# Altium footprint library ME6206A30M3G.PcbLib: 3 footprints
Each footprint in its own frame and in the unit in brackets; x right, y up, seen from the top. Pads: shape width x height; smd on the part's side, far side on the other; paste and mask are expansions set on the pad; w line width, h text height; cw(c..) or ccw(c..) is an arc to the next point about the centre after c.
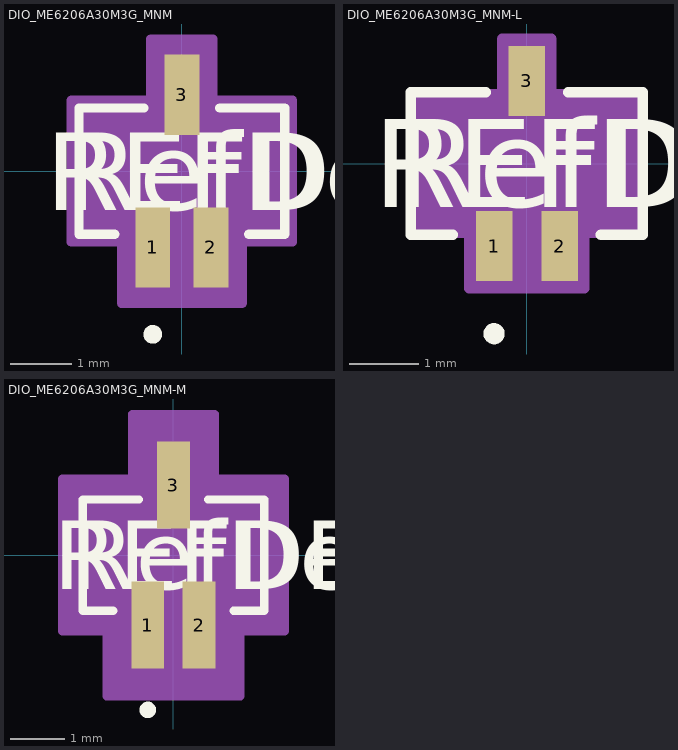
[diagram p0: the footprints below, top view; thin cyan lines are the x and y axes]

## DIO_ME6206A30M3G_MNM [mil]
pads (3):
  rect 22.36x51.56 smd paste+0 mask+0: 1(-18.7,-49) 2(18.7,-49) 3(0,49)
Top Overlay:
  circle w6: c-18.7,-104.78 r3
  lines w6: -42.98,-40.5 -66,-40.5 -66,40.5 -24.28,40.5 ; 24.28,40.5 66,40.5 66,-40.5 42.98,-40.5
  text "REFDES" at -87.5,-25 h50
  text "RefDes" at -75,-25 h50
Mechanical 13:
  circle w0: c-18.7,-25.5 r3
  lines w1: -61,-35.5 61,-35.5 61,35.5 -61,35.5 -61,-35.5 ; -28.7,-61 -28.7,-35.5 -8.7,-35.5 -8.7,-61 -28.7,-61 ; -10,35.5 10,35.5 10,61 -10,61 -10,35.5 ; 8.7,-61 8.7,-35.5 28.7,-35.5 28.7,-61 8.7,-61
  text "RefDes2" at -87.5,-25 h50
Mechanical 15:
  region: -71,-45.5 -71,45.5 -20,45.5 -20,84.78 20,84.78 20,45.5 71,45.5 71,-45.5 38.7,-45.5 38.7,-84.78 -38.7,-84.78 -38.7,-45.5
  lines w6: -71,-45.5 -71,45.5 -20,45.5 -20,84.78 20,84.78 20,45.5 71,45.5 71,-45.5 38.7,-45.5 38.7,-84.78 -38.7,-84.78 -38.7,-45.5 -71,-45.5
3D body "DIO_ME6206A30M3G_MNM.step": height 59.09, standoff 0, extent -60.98,-60.98 60.98,60.98

## DIO_ME6206A30M3G_MNM-L [mm]
pads (3):
  rect 0.528x1.01 smd paste+0 mask+0: 1(-0.475,-1.195) 2(0.475,-1.195) 3(0,1.195)
Top Overlay:
  circle w0.152: c-0.475,-2.461 r0.076
  lines w0.152: -1.072,-1.029 -1.676,-1.029 -1.676,1.029 -0.597,1.029 ; 0.597,1.029 1.676,1.029 1.676,-1.029 1.072,-1.029
  text "REFDES" at -2.222,-0.635 h1.27
  text "RefDes" at -1.905,-0.635 h1.27
Mechanical 13:
  circle w0: c-0.475,-0.648 r0.076
  lines w0.025: -1.549,-0.902 1.549,-0.902 1.549,0.902 -1.549,0.902 -1.549,-0.902 ; -0.729,-1.549 -0.729,-0.902 -0.221,-0.902 -0.221,-1.549 -0.729,-1.549 ; -0.254,0.902 0.254,0.902 0.254,1.549 -0.254,1.549 -0.254,0.902 ; 0.221,-1.549 0.221,-0.902 0.729,-0.902 0.729,-1.549 0.221,-1.549
  text "RefDes2" at -2.222,-0.635 h1.27
Mechanical 15:
  region: -1.651,-1.003 -1.651,1.003 -0.356,1.003 -0.356,1.801 0.356,1.801 0.356,1.003 1.651,1.003 1.651,-1.003 0.831,-1.003 0.831,-1.801 -0.831,-1.801 -0.831,-1.003
  lines w0.152: -1.651,-1.003 -1.651,1.003 -0.356,1.003 -0.356,1.801 0.356,1.801 0.356,1.003 1.651,1.003 1.651,-1.003 0.831,-1.003 0.831,-1.801 -0.831,-1.801 -0.831,-1.003 -1.651,-1.003
3D body "DIO_ME6206A30M3G_MNM.step": height 1.5, standoff 0, extent -1.549,-1.549 1.549,1.549

## DIO_ME6206A30M3G_MNM-M [mm]
pads (3):
  rect 0.608x1.61 smd paste+0 mask+0: 1(-0.475,-1.295) 2(0.475,-1.295) 3(0,1.295)
Top Overlay:
  circle w0.152: c-0.475,-2.861 r0.076
  lines w0.152: -1.112,-1.029 -1.676,-1.029 -1.676,1.029 -0.637,1.029 ; 0.637,1.029 1.676,1.029 1.676,-1.029 1.112,-1.029
  text "REFDES" at -2.222,-0.635 h1.27
  text "RefDes" at -1.905,-0.635 h1.27
Mechanical 13:
  circle w0: c-0.475,-0.648 r0.076
  lines w0.025: -1.549,-0.902 1.549,-0.902 1.549,0.902 -1.549,0.902 -1.549,-0.902 ; -0.729,-1.549 -0.729,-0.902 -0.221,-0.902 -0.221,-1.549 -0.729,-1.549 ; -0.254,0.902 0.254,0.902 0.254,1.549 -0.254,1.549 -0.254,0.902 ; 0.221,-1.549 0.221,-0.902 0.729,-0.902 0.729,-1.549 0.221,-1.549
  text "RefDes2" at -2.222,-0.635 h1.27
Mechanical 15:
  region: -2.057,-1.41 -2.057,1.41 -0.762,1.41 -0.762,2.607 0.762,2.607 0.762,1.41 2.057,1.41 2.057,-1.41 1.237,-1.41 1.237,-2.607 -1.237,-2.607 -1.237,-1.41
  lines w0.152: -2.057,-1.41 -2.057,1.41 -0.762,1.41 -0.762,2.607 0.762,2.607 0.762,1.41 2.057,1.41 2.057,-1.41 1.237,-1.41 1.237,-2.607 -1.237,-2.607 -1.237,-1.41 -2.057,-1.41
3D body "DIO_ME6206A30M3G_MNM.step": height 1.5, standoff 0, extent -1.549,-1.549 1.549,1.549